# Altium schematic symbol library Power-LDO-RT9193_6L.SchLib: 1 symbol
Pins are listed as number, name and electrical type; pins without a type are passive.

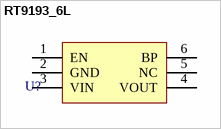
[diagram p0: symbol RT9193_6L]

## RT9193_6L
designator U?
pins: 1 EN, 2 GND, 3 VIN, 4 VOUT, 5 NC, 6 BP